# Altium schematic symbol library CD4051.SchLib: 1 symbol
Pins are listed as number, name and electrical type; pins without a type are passive.

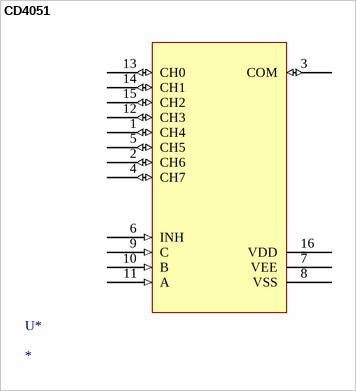
[diagram p0: symbol CD4051]

## CD4051
designator U*
CMOS Analog Multiplexers/Demultiplexers  with Logic Level Conversion; Supplier 1: Digi-Key
footprint DIP16 (Footprint not found)
pins: 1 CH4 (io), 2 CH6 (io), 3 COM (io), 4 CH7 (io), 5 CH5 (io), 6 INH (in), 7 VEE (power), 8 VSS (power), 9 C (in), 10 B (in), 11 A (in), 12 CH3 (io), 13 CH0 (io), 14 CH1 (io), 15 CH2 (io), 16 VDD (power)